# EAGLE library part ITG-3400 (library ITG 3400 Gyro)
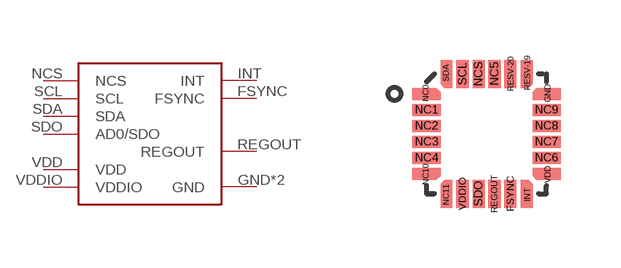
[diagram p0: symbol with the pads of ITG-3400; footprint ITG-3400]

Designator prefix -

## ITG-3400  [ITG-3400]
FSYNC  FSYNC
GND  GND
INT  INT
NCS  NCS
REGOUT  REGOUT
RESV-20  GND
SCL  SCL
SDA  SDA
SDO  AD0/SDO
VDD  VDD
VDDIO  VDDIO

## Footprint ITG-3400 (pad centres in mm)
smd 0.3 x 0.7: FSYNC 0.6,-1.5; NC5 0.2,1.5; NCS -0.2,1.5; REGOUT 0.2,-1.5; RESV-20 0.6,1.5; SCL -0.6,1.5; SDO -0.2,-1.5; VDDIO -0.6,-1.5
smd 0.025 x 0.025: GND 1.524,1.016; INT 1.016,-1.524; NC0 -1.524,1.016; NC10 -1.524,-1.016; NC11 -1.016,-1.524; RESV-19 1.016,1.524; SDA -1.016,1.524; VDD 1.524,-1.016
smd 0.7 x 0.3: NC1 -1.5,0.6; NC2 -1.5,0.2; NC3 -1.5,-0.2; NC4 -1.5,-0.6; NC6 1.5,-0.6; NC7 1.5,-0.2; NC8 1.5,0.2; NC9 1.5,0.6